# Altium integrated library RS73F2BTTD2703B.IntLib: 1 symbol
Pins are listed as number, name and electrical type; pins without a type are passive.

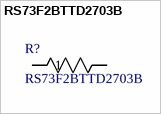
[diagram p0: symbol RS73F2BTTD2703B]

## RS73F2BTTD2703B
designator R?
No Description Available; Manufacturer_Name: KOA Speer; Copyright: Copyright (C) 2026 Ultra Librarian. All rights reserved.; Manufacturer_Part_Number: RS73F2BTTD2703B
footprint RES_RS73F_2B_KOA
pins: 1, 2